# EAGLE library part LM3S2276 (library TI-parts)
Stellaris® LM3S2276 Microcontroller 32bit ARM Cortex M3 core 64 KB flash, 32 KB SRAM, 50MHz, DMA, ADC, ROM bootloader + peripheral driver library
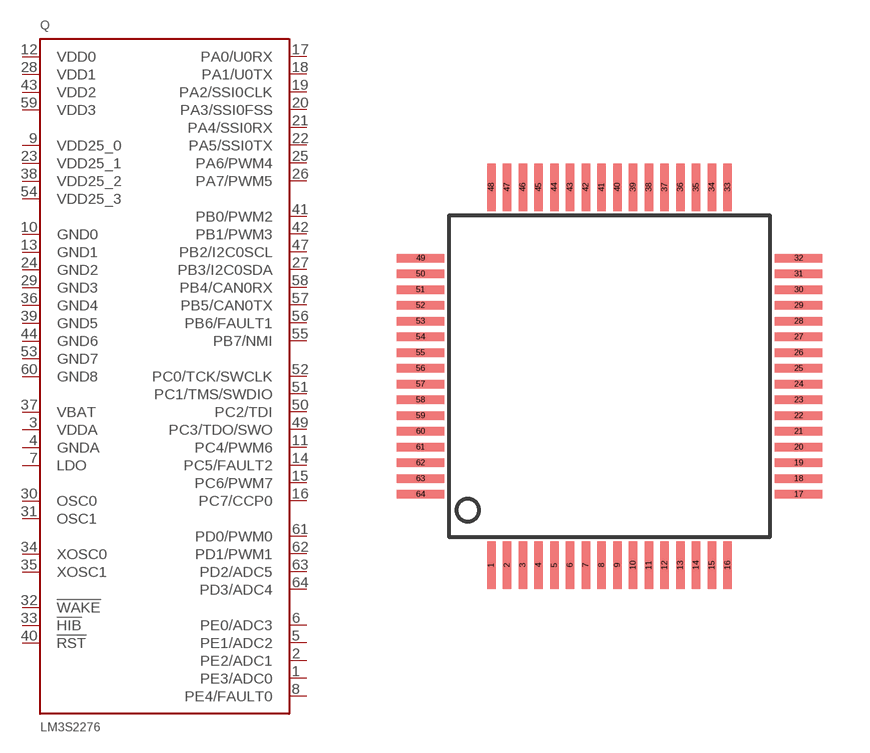
[diagram p5: symbol with the pads of LQFP64; footprint LQFP64]

Designator prefix Q

## LM3S2276  [LQFP64]
1  PE3/ADC0
2  PE2/ADC1
3  VDDA  pwr
4  GNDA  pwr
5  PE1/ADC2
6  PE0/ADC3
7  LDO  pwr
8  PE4/FAULT0
9  VDD25_0  pwr
10  GND0  pwr
11  PC4/PWM6
12  VDD0  pwr
13  GND1  pwr
14  PC5/FAULT2
15  PC6/PWM7
16  PC7/CCP0
17  PA0/U0RX
18  PA1/U0TX
19  PA2/SSI0CLK
20  PA3/SSI0FSS
21  PA4/SSI0RX
22  PA5/SSI0TX
23  VDD25_1  pwr
24  GND2  pwr
25  PA6/PWM4
26  PA7/PWM5
27  PB3/I2C0SDA
28  VDD1  pwr
29  GND3  pwr
30  OSC0  in
31  OSC1  out
32  !WAKE  in
33  !HIB  in
34  XOSC0  in
35  XOSC1  out
36  GND4  pwr
37  VBAT  pwr
38  VDD25_2  pwr
39  GND5  pwr
40  !RST  in
41  PB0/PWM2
42  PB1/PWM3
43  VDD2  pwr
44  GND6  pwr
47  PB2/I2C0SCL
49  PC3/TDO/SWO
50  PC2/TDI
51  PC1/TMS/SWDIO
52  PC0/TCK/SWCLK
53  GND7  pwr
54  VDD25_3  pwr
55  PB7/NMI
56  PB6/FAULT1
57  PB5/CAN0TX
58  PB4/CAN0RX
59  VDD3  pwr
60  GND8  pwr
61  PD0/PWM0
62  PD1/PWM1
63  PD2/ADC5
64  PD3/ADC4

## Footprint LQFP64 (pad centres in mm)
LQFP64 PM (S-PQFP-G64), 0.50mm
smd 0.27 x 1.5: 1 -3.75,-6; 2 -3.25,-6; 3 -2.75,-6; 4 -2.25,-6; 5 -1.75,-6; 6 -1.25,-6; 7 -0.75,-6; 8 -0.25,-6; 9 0.25,-6; 10 0.75,-6; 11 1.25,-6; 12 1.75,-6; 13 2.25,-6; 14 2.75,-6; 15 3.25,-6; 16 3.75,-6; 33 3.75,6; 34 3.25,6; 35 2.75,6; 36 2.25,6; 37 1.75,6; 38 1.25,6; 39 0.75,6; 40 0.25,6; 41 -0.25,6; 42 -0.75,6; 43 -1.25,6; 44 -1.75,6; 45 -2.25,6; 46 -2.75,6; 47 -3.25,6; 48 -3.75,6
smd 1.5 x 0.27: 17 6,-3.75; 18 6,-3.25; 19 6,-2.75; 20 6,-2.25; 21 6,-1.75; 22 6,-1.25; 23 6,-0.75; 24 6,-0.25; 25 6,0.25; 26 6,0.75; 27 6,1.25; 28 6,1.75; 29 6,2.25; 30 6,2.75; 31 6,3.25; 32 6,3.75; 49 -6,3.75; 50 -6,3.25; 51 -6,2.75; 52 -6,2.25; 53 -6,1.75; 54 -6,1.25; 55 -6,0.75; 56 -6,0.25; 57 -6,-0.25; 58 -6,-0.75; 59 -6,-1.25; 60 -6,-1.75; 61 -6,-2.25; 62 -6,-2.75; 63 -6,-3.25; 64 -6,-3.75